# Altium integrated library ALTIUM-PHD_1_27_SMT_DUAL_PIN_HEADER_6210XX21021-rev17a.IntLib: 31 symbols
Pins are listed as number, name and electrical type; pins without a type are passive.

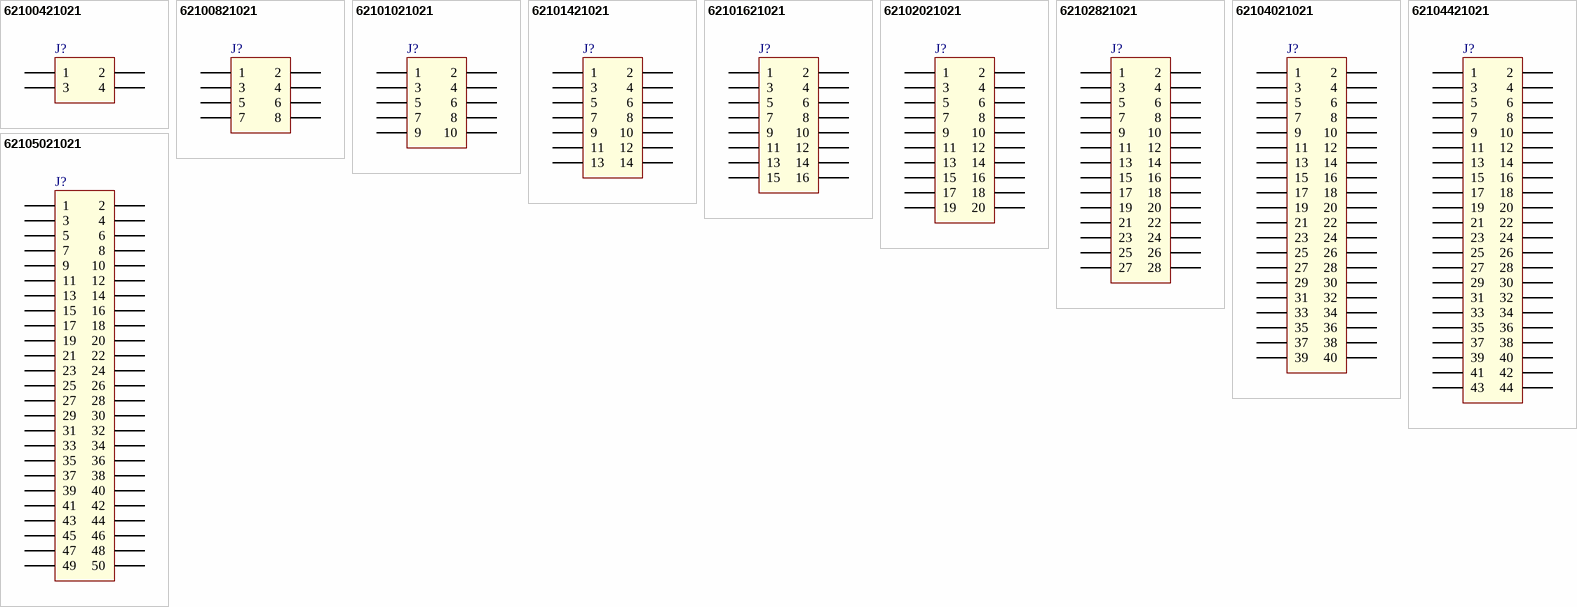
[diagram p0: symbols 62100421021 to 62105021021]

## 62100421021
designator J?
WR-PHD 1.27 mm SMD Dual Pin Header, H=3.80mm, 4p; Part Number: 62100421021; Pitch: 1.27 mm; Pin Number: 4; ComponentLink1Description: Manufacturer; ComponentLink1URL: http://www.we-online.de; ComponentLink2Description: Datasheet; ComponentLink2URL: http://katalog.we-online.de/em/datasheet/6210xx21021.pdf; Published Date: April 2017; Publisher: Wurth Elektronik
footprint 62100421021 (SMD Dual Pin Header, H=3.80mm, 4p)
pins: 1, 2, 3, 4

## 62100821021
designator J?
WR-PHD 1.27 mm SMD Dual Pin Header, H=3.80mm, 8p; Part Number: 62100821021; Pitch: 1.27 mm; Pin Number: 8; ComponentLink1Description: Manufacturer; ComponentLink1URL: http://www.we-online.de; ComponentLink2Description: Datasheet; ComponentLink2URL: http://katalog.we-online.de/em/datasheet/6210xx21021.pdf; Published Date: April 2017; Publisher: Wurth Elektronik
footprint 62100821021 (SMD Dual Pin Header, H=3.80mm, 8p)
pins: 1, 2, 3, 4, 5, 6, 7, 8

## 62101021021
designator J?
WR-PHD 1.27 mm SMD Dual Pin Header, H=3.80mm, 10p; Part Number: 62101021021; Pitch: 1.27 mm; Pin Number: 10; ComponentLink1Description: Manufacturer; ComponentLink1URL: http://www.we-online.de; ComponentLink2Description: Datasheet; ComponentLink2URL: http://katalog.we-online.de/em/datasheet/6210xx21021.pdf; Published Date: April 2017; Publisher: Wurth Elektronik
footprint 62101021021 (SMD Dual Pin Header, H=3.80mm, 10p)
pins: 1, 2, 3, 4, 5, 6, 7, 8, 9, 10

## 62101421021
designator J?
WR-PHD 1.27 mm SMD Dual Pin Header, H=3.80mm, 14p; Part Number: 62101421021; Pitch: 1.27 mm; Pin Number: 14; ComponentLink1Description: Manufacturer; ComponentLink1URL: http://www.we-online.de; ComponentLink2Description: Datasheet; ComponentLink2URL: http://katalog.we-online.de/em/datasheet/6210xx21021.pdf; Published Date: April 2017; Publisher: Wurth Elektronik
footprint 62101421021 (SMD Dual Pin Header, H=3.80mm, 14p)
pins: 1, 2, 3, 4, 5, 6, 7, 8, 9, 10, 11, 12, 13, 14

## 62101621021
designator J?
WR-PHD 1.27 mm SMD Dual Pin Header, H=3.80mm, 16p; Part Number: 62101621021; Pitch: 1.27 mm; Pin Number: 16; ComponentLink1Description: Manufacturer; ComponentLink1URL: http://www.we-online.de; ComponentLink2Description: Datasheet; ComponentLink2URL: http://katalog.we-online.de/em/datasheet/6210xx21021.pdf; Published Date: April 2017; Publisher: Wurth Elektronik
footprint 62101621021 (SMD Dual Pin Header, H=3.80mm, 16p)
pins: 1, 2, 3, 4, 5, 6, 7, 8, 9, 10, 11, 12, 13, 14, 15, 16

## 62102021021
designator J?
WR-PHD 1.27 mm SMD Dual Pin Header, H=3.80mm, 20p; Part Number: 62102021021; Pitch: 1.27 mm; Pin Number: 20; ComponentLink1Description: Manufacturer; ComponentLink1URL: http://www.we-online.de; ComponentLink2Description: Datasheet; ComponentLink2URL: http://katalog.we-online.de/em/datasheet/6210xx21021.pdf; Published Date: April 2017; Publisher: Wurth Elektronik
footprint 62102021021 (SMD Dual Pin Header, H=3.80mm, 20p)
pins: 1, 2, 3, 4, 5, 6, 7, 8, 9, 10, 11, 12, 13, 14, 15, 16, 17, 18, 19, 20

## 62102821021
designator J?
WR-PHD 1.27 mm SMD Dual Pin Header, H=3.80mm, 28p; Part Number: 62102821021; Pitch: 1.27 mm; Pin Number: 28; ComponentLink1Description: Manufacturer; ComponentLink1URL: http://www.we-online.de; ComponentLink2Description: Datasheet; ComponentLink2URL: http://katalog.we-online.de/em/datasheet/6210xx21021.pdf; Published Date: April 2017; Publisher: Wurth Elektronik
footprint 62102821021 (SMD Dual Pin Header, H=3.80mm, 28p)
pins: 1, 2, 3, 4, 5, 6, 7, 8, 9, 10, 11, 12, 13, 14, 15, 16, 17, 18, 19, 20, 21, 22, 23, 24, 25, 26, 27, 28

## 62104021021
designator J?
WR-PHD 1.27 mm SMD Dual Pin Header, H=3.80mm, 40p; Part Number: 62104021021; Pitch: 1.27 mm; Pin Number: 40; ComponentLink1Description: Manufacturer; ComponentLink1URL: http://www.we-online.de; ComponentLink2Description: Datasheet; ComponentLink2URL: http://katalog.we-online.de/em/datasheet/6210xx21021.pdf; Published Date: April 2017; Publisher: Wurth Elektronik
footprint 62104021021 (SMD Dual Pin Header, H=3.80mm, 40p)
pins: 1, 2, 3, 4, 5, 6, 7, 8, 9, 10, 11, 12, 13, 14, 15, 16, 17, 18, 19, 20, 21, 22, 23, 24, 25, 26, 27, 28, 29, 30, 31, 32, 33, 34, 35, 36, 37, 38, 39, 40

## 62104421021
designator J?
WR-PHD 1.27 mm SMD Dual Pin Header, H=3.80mm, 44p; Part Number: 62104421021; Pitch: 1.27 mm; Pin Number: 44; ComponentLink1Description: Manufacturer; ComponentLink1URL: http://www.we-online.de; ComponentLink2Description: Datasheet; ComponentLink2URL: http://katalog.we-online.de/em/datasheet/6210xx21021.pdf; Published Date: April 2017; Publisher: Wurth Elektronik
footprint 62104421021 (SMD Dual Pin Header, H=3.80mm, 44p)
pins: 1, 2, 3, 4, 5, 6, 7, 8, 9, 10, 11, 12, 13, 14, 15, 16, 17, 18, 19, 20, 21, 22, 23, 24, 25, 26, 27, 28, 29, 30, 31, 32, 33, 34, 35, 36, 37, 38, 39, 40, 41, 42, 43, 44

## 62105021021
designator J?
WR-PHD 1.27 mm SMD Dual Pin Header, H=3.80mm, 50p; Part Number: 62105021021; Pitch: 1.27 mm; Pin Number: 50; ComponentLink1Description: Manufacturer; ComponentLink1URL: http://www.we-online.de; ComponentLink2Description: Datasheet; ComponentLink2URL: http://katalog.we-online.de/em/datasheet/6210xx21021.pdf; Published Date: April 2017; Publisher: Wurth Elektronik
footprint 62105021021 (SMD Dual Pin Header, H=3.80mm, 50p)
pins: 1, 2, 3, 4, 5, 6, 7, 8, 9, 10, 11, 12, 13, 14, 15, 16, 17, 18, 19, 20, 21, 22, 23, 24, 25, 26, 27, 28, 29, 30, 31, 32, 33, 34, 35, 36, 37, 38, 39, 40, 41, 42, 43, 44, 45, 46, 47, 48, 49, 50


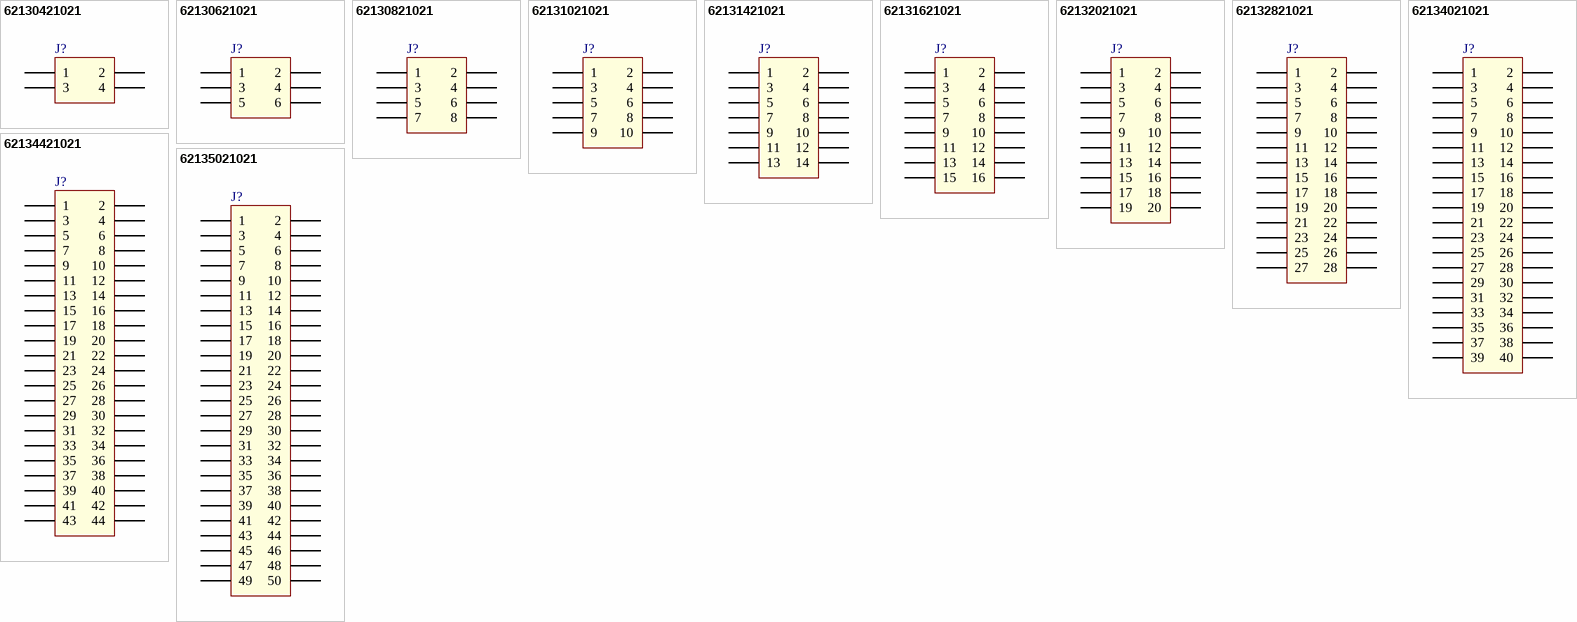
[diagram p1: symbols 62130421021 to 62135021021]

## 62130421021
designator J?
WR-PHD 1.27 mm SMD Dual Pin Header, H=3.80mm (Reel), 4p; Part Number: 62130421021; Pitch: 1.27 mm; Pin Number: 4; ComponentLink1Description: Manufacturer; ComponentLink1URL: http://www.we-online.de; ComponentLink2Description: Datasheet; ComponentLink2URL: http://katalog.we-online.de/em/datasheet/6213xx21021.pdf; Published Date: April 2017; Publisher: Wurth Elektronik
footprint 62130421021 (SMD Dual Pin Header, H=3.80mm (Reel), 4p)
pins: 1, 2, 3, 4

## 62130621021
designator J?
WR-PHD 1.27 mm SMD Dual Pin Header, H=3.80mm (Reel), 6p; Part Number: 62130621021; Pitch: 1.27 mm; Pin Number: 6; ComponentLink1Description: Manufacturer; ComponentLink1URL: http://www.we-online.de; ComponentLink2Description: Datasheet; ComponentLink2URL: http://katalog.we-online.de/em/datasheet/6213xx21021.pdf; Published Date: April 2017; Publisher: Wurth Elektronik
footprint 62130621021 (SMD Dual Pin Header, H=3.80mm (Reel), 6p)
pins: 1, 2, 3, 4, 5, 6

## 62130821021
designator J?
WR-PHD 1.27 mm SMD Dual Pin Header, H=3.80mm (Reel), 8p; Part Number: 62130821021; Pitch: 1.27 mm; Pin Number: 8; ComponentLink1Description: Manufacturer; ComponentLink1URL: http://www.we-online.de; ComponentLink2Description: Datasheet; ComponentLink2URL: http://katalog.we-online.de/em/datasheet/6213xx21021.pdf; Published Date: April 2017; Publisher: Wurth Elektronik
footprint 62130821021 (SMD Dual Pin Header, H=3.80mm (Reel), 8p)
pins: 1, 2, 3, 4, 5, 6, 7, 8

## 62131021021
designator J?
WR-PHD 1.27 mm SMD Dual Pin Header, H=3.80mm (Reel), 10p; Part Number: 62131021021; Pitch: 1.27 mm; Pin Number: 10; ComponentLink1Description: Manufacturer; ComponentLink1URL: http://www.we-online.de; ComponentLink2Description: Datasheet; ComponentLink2URL: http://katalog.we-online.de/em/datasheet/6213xx21021.pdf; Published Date: April 2017; Publisher: Wurth Elektronik
footprint 62131021021 (SMD Dual Pin Header, H=3.80mm (Reel), 10p)
pins: 1, 2, 3, 4, 5, 6, 7, 8, 9, 10

## 62131421021
designator J?
WR-PHD 1.27 mm SMD Dual Pin Header, H=3.80mm (Reel), 14p; Part Number: 62131421021; Pitch: 1.27 mm; Pin Number: 14; ComponentLink1Description: Manufacturer; ComponentLink1URL: http://www.we-online.de; ComponentLink2Description: Datasheet; ComponentLink2URL: http://katalog.we-online.de/em/datasheet/6213xx21021.pdf; Published Date: April 2017; Publisher: Wurth Elektronik
footprint 62131421021 (SMD Dual Pin Header, H=3.80mm (Reel), 14p)
pins: 1, 2, 3, 4, 5, 6, 7, 8, 9, 10, 11, 12, 13, 14

## 62131621021
designator J?
WR-PHD 1.27 mm SMD Dual Pin Header, H=3.80mm (Reel), 16p; Part Number: 62131621021; Pitch: 1.27 mm; Pin Number: 16; ComponentLink1Description: Manufacturer; ComponentLink1URL: http://www.we-online.de; ComponentLink2Description: Datasheet; ComponentLink2URL: http://katalog.we-online.de/em/datasheet/6213xx21021.pdf; Published Date: April 2017; Publisher: Wurth Elektronik
footprint 62131621021 (SMD Dual Pin Header, H=3.80mm (Reel), 16p)
pins: 1, 2, 3, 4, 5, 6, 7, 8, 9, 10, 11, 12, 13, 14, 15, 16

## 62132021021
designator J?
WR-PHD 1.27 mm SMD Dual Pin Header, H=3.80mm (Reel), 20p; Part Number: 62132021021; Pitch: 1.27 mm; Pin Number: 20; ComponentLink1Description: Manufacturer; ComponentLink1URL: http://www.we-online.de; ComponentLink2Description: Datasheet; ComponentLink2URL: http://katalog.we-online.de/em/datasheet/6213xx21021.pdf; Published Date: April 2017; Publisher: Wurth Elektronik
footprint 62132021021 (SMD Dual Pin Header, H=3.80mm (Reel), 20p)
pins: 1, 2, 3, 4, 5, 6, 7, 8, 9, 10, 11, 12, 13, 14, 15, 16, 17, 18, 19, 20

## 62132821021
designator J?
WR-PHD 1.27 mm SMD Dual Pin Header, H=3.80mm (Reel), 28p; Part Number: 62132821021; Pitch: 1.27 mm; Pin Number: 28; ComponentLink1Description: Manufacturer; ComponentLink1URL: http://www.we-online.de; ComponentLink2Description: Datasheet; ComponentLink2URL: http://katalog.we-online.de/em/datasheet/6213xx21021.pdf; Published Date: April 2017; Publisher: Wurth Elektronik
footprint 62132821021 (SMD Dual Pin Header, H=3.80mm (Reel), 28p)
pins: 1, 2, 3, 4, 5, 6, 7, 8, 9, 10, 11, 12, 13, 14, 15, 16, 17, 18, 19, 20, 21, 22, 23, 24, 25, 26, 27, 28

## 62134021021
designator J?
WR-PHD 1.27 mm SMD Dual Pin Header, H=3.80mm (Reel), 40p; Part Number: 62134021021; Pitch: 1.27 mm; Pin Number: 40; ComponentLink1Description: Manufacturer; ComponentLink1URL: http://www.we-online.de; ComponentLink2Description: Datasheet; ComponentLink2URL: http://katalog.we-online.de/em/datasheet/6213xx21021.pdf; Published Date: April 2017; Publisher: Wurth Elektronik
footprint 62134021021 (SMD Dual Pin Header, H=3.80mm (Reel), 40p)
pins: 1, 2, 3, 4, 5, 6, 7, 8, 9, 10, 11, 12, 13, 14, 15, 16, 17, 18, 19, 20, 21, 22, 23, 24, 25, 26, 27, 28, 29, 30, 31, 32, 33, 34, 35, 36, 37, 38, 39, 40

## 62134421021
designator J?
WR-PHD 1.27 mm SMD Dual Pin Header, H=3.80mm (Reel), 44p; Part Number: 62134421021; Pitch: 1.27 mm; Pin Number: 44; ComponentLink1Description: Manufacturer; ComponentLink1URL: http://www.we-online.de; ComponentLink2Description: Datasheet; ComponentLink2URL: http://katalog.we-online.de/em/datasheet/6213xx21021.pdf; Published Date: April 2017; Publisher: Wurth Elektronik
footprint 62134421021 (SMD Dual Pin Header, H=3.80mm (Reel), 44p)
pins: 1, 2, 3, 4, 5, 6, 7, 8, 9, 10, 11, 12, 13, 14, 15, 16, 17, 18, 19, 20, 21, 22, 23, 24, 25, 26, 27, 28, 29, 30, 31, 32, 33, 34, 35, 36, 37, 38, 39, 40, 41, 42, 43, 44

## 62135021021
designator J?
WR-PHD 1.27 mm SMD Dual Pin Header, H=3.80mm (Reel), 50p; Part Number: 62135021021; Pitch: 1.27 mm; Pin Number: 50; ComponentLink1Description: Manufacturer; ComponentLink1URL: http://www.we-online.de; ComponentLink2Description: Datasheet; ComponentLink2URL: http://katalog.we-online.de/em/datasheet/6213xx21021.pdf; Published Date: April 2017; Publisher: Wurth Elektronik
footprint 62135021021 (SMD Dual Pin Header, H=3.80mm (Reel), 50p)
pins: 1, 2, 3, 4, 5, 6, 7, 8, 9, 10, 11, 12, 13, 14, 15, 16, 17, 18, 19, 20, 21, 22, 23, 24, 25, 26, 27, 28, 29, 30, 31, 32, 33, 34, 35, 36, 37, 38, 39, 40, 41, 42, 43, 44, 45, 46, 47, 48, 49, 50


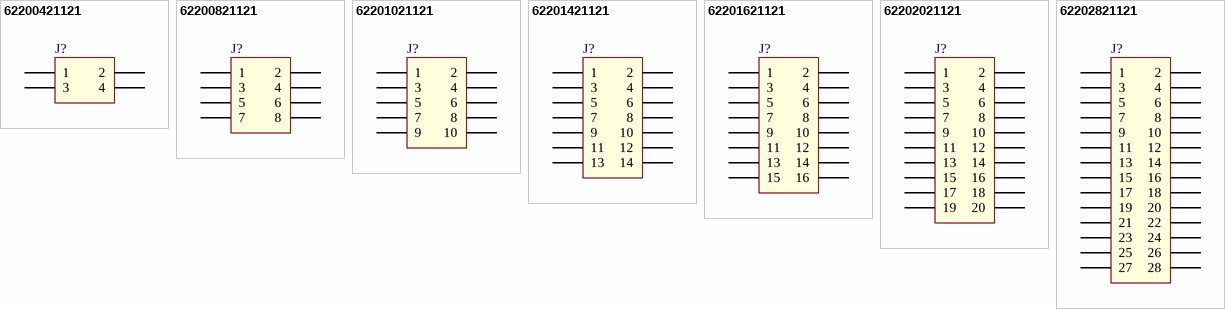
[diagram p2: symbols 62200421121 to 62202821121]

## 62200421121
designator J?
WR-PHD 1.27 mm THT Dual Pin Header, 4p; Part Number: 62200421121; Pitch: 1.27 mm; Pin Number: 4; ComponentLink1Description: Manufacturer; ComponentLink1URL: http://www.we-online.de; ComponentLink2Description: Datasheet; ComponentLink2URL: http://katalog.we-online.de/em/datasheet/6220xx21121.pdf; Published Date: April 2017; Publisher: Wurth Elektronik
footprint 62200421121 (1.27 mm THT Dual Pin Header, 4p)
pins: 1, 2, 3, 4

## 62200821121
designator J?
WR-PHD 1.27 mm THT Dual Pin Header, 8p; Part Number: 62200821121; Pitch: 1.27 mm; Pin Number: 8; ComponentLink1Description: Manufacturer; ComponentLink1URL: http://www.we-online.de; ComponentLink2Description: Datasheet; ComponentLink2URL: http://katalog.we-online.de/em/datasheet/6220xx21121.pdf; Published Date: April 2017; Publisher: Wurth Elektronik
footprint 62200821121 (1.27 mm THT Dual Pin Header, 8p)
pins: 1, 2, 3, 4, 5, 6, 7, 8

## 62201021121
designator J?
WR-PHD 1.27 mm THT Dual Pin Header, 10p; Part Number: 62201021121; Pitch: 1.27 mm; Pin Number: 10; ComponentLink1Description: Manufacturer; ComponentLink1URL: http://www.we-online.de; ComponentLink2Description: Datasheet; ComponentLink2URL: http://katalog.we-online.de/em/datasheet/6220xx21121.pdf; Published Date: April 2017; Publisher: Wurth Elektronik
footprint 62201021121 (1.27 mm THT Dual Pin Header, 10p)
pins: 1, 2, 3, 4, 5, 6, 7, 8, 9, 10

## 62201421121
designator J?
WR-PHD 1.27 mm THT Dual Pin Header, 14p; Part Number: 62201421121; Pitch: 1.27 mm; Pin Number: 14; ComponentLink1Description: Manufacturer; ComponentLink1URL: http://www.we-online.de; ComponentLink2Description: Datasheet; ComponentLink2URL: http://katalog.we-online.de/em/datasheet/6220xx21121.pdf; Published Date: April 2017; Publisher: Wurth Elektronik
footprint 62201421121 (1.27 mm THT Dual Pin Header, 14p)
pins: 1, 2, 3, 4, 5, 6, 7, 8, 9, 10, 11, 12, 13, 14

## 62201621121
designator J?
WR-PHD 1.27 mm THT Dual Pin Header, 16p; Part Number: 62201621121; Pitch: 1.27 mm; Pin Number: 16; ComponentLink1Description: Manufacturer; ComponentLink1URL: http://www.we-online.de; ComponentLink2Description: Datasheet; ComponentLink2URL: http://katalog.we-online.de/em/datasheet/6220xx21121.pdf; Published Date: April 2017; Publisher: Wurth Elektronik
footprint 62201621121 (1.27 mm THT Dual Pin Header, 16p)
pins: 1, 2, 3, 4, 5, 6, 7, 8, 9, 10, 11, 12, 13, 14, 15, 16

## 62202021121
designator J?
WR-PHD 1.27 mm THT Dual Pin Header, 20p; Part Number: 62202021121; Pitch: 1.27 mm; Pin Number: 20; ComponentLink1Description: Manufacturer; ComponentLink1URL: http://www.we-online.de; ComponentLink2Description: Datasheet; ComponentLink2URL: http://katalog.we-online.de/em/datasheet/6220xx21121.pdf; Published Date: April 2017; Publisher: Wurth Elektronik
footprint 62202021121 (1.27 mm THT Dual Pin Header, 20p)
pins: 1, 2, 3, 4, 5, 6, 7, 8, 9, 10, 11, 12, 13, 14, 15, 16, 17, 18, 19, 20

## 62202821121
designator J?
WR-PHD 1.27 mm THT Dual Pin Header, 28p; Part Number: 62202821121; Pitch: 1.27 mm; Pin Number: 28; ComponentLink1Description: Manufacturer; ComponentLink1URL: http://www.we-online.de; ComponentLink2Description: Datasheet; ComponentLink2URL: http://katalog.we-online.de/em/datasheet/6220xx21121.pdf; Published Date: April 2017; Publisher: Wurth Elektronik
footprint 62202821121 (1.27 mm THT Dual Pin Header, 28p)
pins: 1, 2, 3, 4, 5, 6, 7, 8, 9, 10, 11, 12, 13, 14, 15, 16, 17, 18, 19, 20, 21, 22, 23, 24, 25, 26, 27, 28


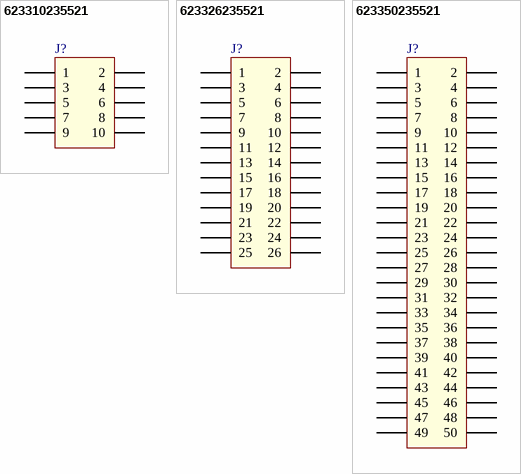
[diagram p3: symbols 623310235521 to 623350235521]

## 623310235521
designator J?
WR-PHD 1.27 mm SMT Dual Pin Header, H=1.80mm, 10p; Part Number: 623310235521; Pitch: 1.27 mm; Pin Number: 10; ComponentLink1Description: Manufacturer; ComponentLink1URL: http://www.we-online.de; ComponentLink2Description: Datasheet; ComponentLink2URL: http://katalog.we-online.de/em/datasheet/6233xx235521.pdf; Published Date: April 2017; Publisher: Wurth Elektronik
footprint 623310235521 (1.27 mm SMT Dual Pin Header, H=1.80mm, 10p)
pins: 1, 2, 3, 4, 5, 6, 7, 8, 9, 10

## 623326235521
designator J?
WR-PHD 1.27 mm SMT Dual Pin Header, H=1.80mm, 26p; Part Number: 623326235521; Pitch: 1.27 mm; Pin Number: 26; ComponentLink1Description: Manufacturer; ComponentLink1URL: http://www.we-online.de; ComponentLink2Description: Datasheet; ComponentLink2URL: http://katalog.we-online.de/em/datasheet/6233xx235521.pdf; Published Date: April 2017; Publisher: Wurth Elektronik
footprint 623326235521 (1.27 mm SMT Dual Pin Header, H=1.80mm, 26p)
pins: 1, 2, 3, 4, 5, 6, 7, 8, 9, 10, 11, 12, 13, 14, 15, 16, 17, 18, 19, 20, 21, 22, 23, 24, 25, 26

## 623350235521
designator J?
WR-PHD 1.27 mm SMT Dual Pin Header, H=1.80mm, 50p; Part Number: 623350235521; Pitch: 1.27 mm; Pin Number: 50; ComponentLink1Description: Manufacturer; ComponentLink1URL: http://www.we-online.de; ComponentLink2Description: Datasheet; ComponentLink2URL: http://katalog.we-online.de/em/datasheet/6233xx235521.pdf; Published Date: April 2017; Publisher: Wurth Elektronik
footprint 623350235521 (1.27 mm SMT Dual Pin Header, H=1.80mm, 50p)
pins: 1, 2, 3, 4, 5, 6, 7, 8, 9, 10, 11, 12, 13, 14, 15, 16, 17, 18, 19, 20, 21, 22, 23, 24, 25, 26, 27, 28, 29, 30, 31, 32, 33, 34, 35, 36, 37, 38, 39, 40, 41, 42, 43, 44, 45, 46, 47, 48, 49, 50